# Altium schematic symbol library OS102011MS2QN1C.SchLib: 1 symbol
Pins are listed as number, name and electrical type; pins without a type are passive.

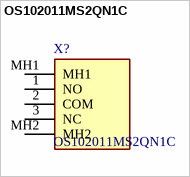
[diagram p0: symbol OS102011MS2QN1C]

## OS102011MS2QN1C
designator X?
Through Hole Slide Switch Single Pole Double Throw (SPDT) Latching 100 mA Slide; Manufacturer_Name: C & K COMPONENTS; Geometry.Height: 8.7mm; TME Electronic Components Part Number: *; TME Electronic Components Price/Stock: *; Manufacturer_Part_Number: OS102011MS2QN1C; Datasheet Link: https://www.ckswitches.com/media/1428/os.pdf
footprint OS102011MS2QN1C
pins: 1 NO, 2 COM, 3 NC, MH1, MH2